# Altium footprint library HEADER 5PIN.PcbLib: 2 footprints
Each footprint in its own frame and in the unit in brackets; x right, y up, seen from the top. Pads: shape width x height; smd on the part's side, far side on the other; paste and mask are expansions set on the pad; w line width, h text height; cw(c..) or ccw(c..) is an arc to the next point about the centre after c.
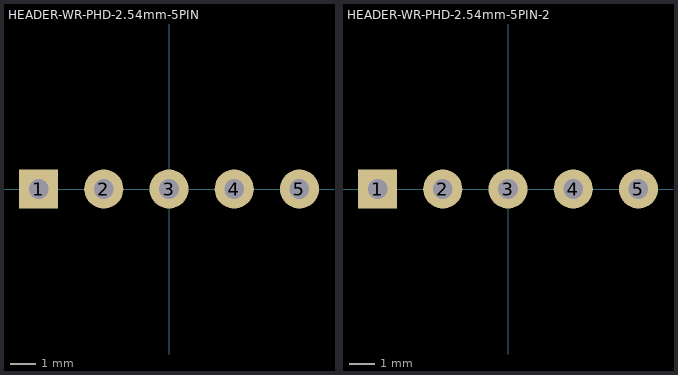
[diagram p0: the footprints below, top view; thin cyan lines are the x and y axes]

## HEADER-WR-PHD-2.54mm-5PIN [mil]
pads (5):
  rect 60x60 hole 30: 1(-200,0)
  round 60 hole 30: 2(-100,0) 3(0,0) 4(100,0) 5(200,0)

## HEADER-WR-PHD-2.54mm-5PIN-2 [mil]
pads (5):
  rect 60x60 hole 30: 1(-200,0)
  round 60 hole 30: 2(-100,0) 3(0,0) 4(100,0) 5(200,0)
3D body "HEADER-WR-PHD-2.54mm-5PIN.stp": height 336.22, standoff -118.11, extent -250,-50 250,50